# Altium schematic symbol library Switchs.SCHLIB: 4 symbols
Pins are listed as number, name and electrical type; pins without a type are passive.

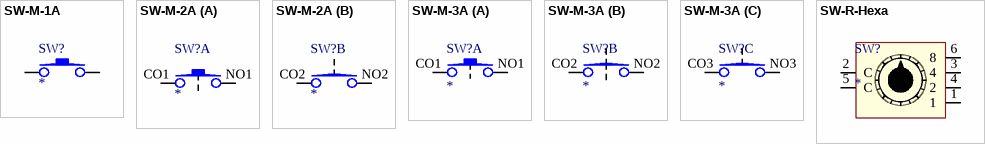
[diagram p0: symbols SW-M-1A to SW-R-Hexa]

## SW-M-1A
designator SW?
SWitch-Momentary, 1 contact A (Normally open)
pins: 1, 2

## SW-M-2A
designator SW?
SWitch-Momentary, 2 contacts A (Normally open)
part A pins: CO1, NO1
part B pins: CO2, NO2

## SW-M-3A
designator SW?
SWitch-Momentary, 3 contacts A (Normally open)
part A pins: CO1, NO1
part B pins: CO2, NO2
part C pins: CO3, NO3

## SW-R-Hexa
designator SW?
SWitch-Rotating-Hexa
pins: 1, 2 C, 3 4, 4 2, 5 C, 6 8